# EAGLE library part BTN7960 (library TO263-7)
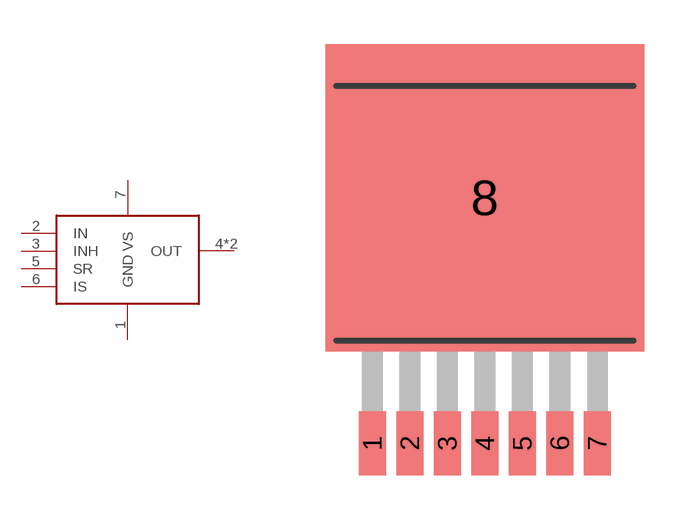
[diagram p0: symbol with the pads of TO263-7; footprint TO263-7]

Designator prefix -

## BTN7960  [TO263-7]
1  GND
2  IN
3  INH
4  OUT
5  SR
6  IS
7  VS
8  OUT

## Footprint TO263-7 (pad centres in mm)
TO-263, 7 pins and tab
smd 0.91 x 2.16: 1 -3.81,-5.78; 2 -2.54,-5.78; 3 -1.27,-5.78; 4 0,-5.78; 5 1.27,-5.78; 6 2.54,-5.78; 7 3.81,-5.78
smd 10.8 x 10.41: 8 0,2.54